# Altium schematic symbol library Memory.SchLib: 2 symbols
Pins are listed as number, name and electrical type; pins without a type are passive.

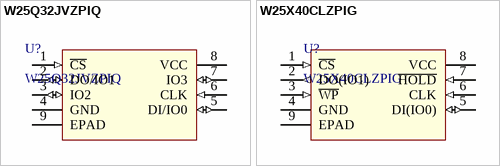
[diagram p0: symbols W25Q32JVZPIQ to W25X40CLZPIG]

## W25Q32JVZPIQ
designator U?
IC FLASH 32MBIT 104MHZ 8WSON; Manufacturer: Winbond Electronics; Memory Type: FLASH - NOR; Memory Size: 32M (4M x 8); Interface: SPI Serial; Voltage - Supply: 2.7 V ~ 3.6 V; Supplier 1: Digi-Key; Supplier Part Number 1: W25Q32JVZPIQ-ND; Manufacturer Part Number: W25Q32JVZPIQ; RoHS: RoHS Compliant; Category: Integrated Circuits (ICs); Stock 1: 8375; Pricing 1: 1=0.7 (USD); Packaging: Tube; Part Status: Active; Memory Format: FLASH; Speed: 104MHz; Operating Temperature: -40°C ~ 85°C (TA); Supplier Device Package: 8-WSON (6x5); ComponentLink1URL: https://www.winbond.com/resource-files/w25q32jv%20spi%20revc%2008302016.pdf; ComponentLink1Description: https://www.winbond.com/resource-files/w25q32jv%20spi%20revc%2008302016.pdf; Package: 8-WDFN Exposed Pad
footprint WSON-8-6x5
pins: 1 ~{CS} (in) "Chip Select Input", 2 DO/IO1 (io) "Data Output (Data Input Output 1)", 3 IO2 (io) "Data Input Output 2", 4 GND (power) "Ground", 5 DI/IO0 (io) "Data Input (Data Input Output 0)", 6 CLK (in) "Serial Clock Input", 7 IO3 (io) "Data Input Output 3", 8 VCC (power) "Power Supply", 9 EPAD

## W25X40CLZPIG
designator U?
IC FLASH 4MBIT 104MHZ 8WSON; Manufacturer: Winbond Electronics; Memory Type: Non-Volatile; Memory Size: 4Mb (512K x 8); Interface: SPI Serial; Voltage - Supply: 2.3 V ~ 3.6 V; Supplier 1: Digi-Key; Supplier Part Number 1: W25X40CLZPIG-ND; Manufacturer Part Number: W25X40CLZPIG; RoHS: RoHS Compliant; Category: Integrated Circuits (ICs); Stock 1: 1365; Pricing 1: 1=0.47 (USD); Packaging: Tube; Part Status: Active; Memory Format: FLASH; Speed: 104MHz; Operating Temperature: -40°C ~ 85°C (TA); Supplier Device Package: 8-WSON (6x5); ComponentLink1URL: https://www.winbond.com/resource-files/w25x40cl_f%2020140325.pdf; ComponentLink1Description: https://www.winbond.com/resource-files/w25x40cl_f%2020140325.pdf; Package: 8-WDFN Exposed Pad
footprint WSON-8-6x5
pins: 1 ~{CS} (in) "Chip Select Input", 2 DO(IO1) (out) "Data Input / Output", 3 ~{WP} (in) "Write Protect Input", 4 GND (power) "Ground", 5 DI(IO0) (io) "Data Input / Output", 6 CLK (in) "Serial Clock Input", 7 ~{HOLD} (in) "Hold Input", 8 VCC (power) "Power Supply", 9 EPAD